# Altium schematic symbol library ESP-12S.SchLib: 2 symbols
Pins are listed as number, name and electrical type; pins without a type are passive.

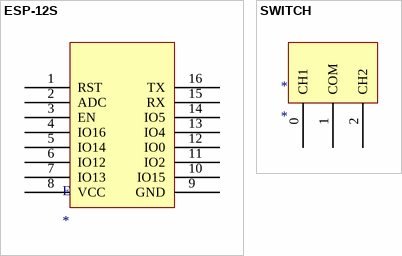
[diagram p0: symbols ESP-12S to SWITCH]

## ESP-12S
designator E
footprint ESP-12S
pins: 1 RST, 2 ADC, 3 EN, 4 IO16, 5 IO14, 6 IO12, 7 IO13, 8 VCC, 9 GND, 10 IO15, 11 IO2, 12 IO0, 13 IO4, 14 IO5, 15 RX, 16 TX

## SWITCH
designator *
footprint SWITCH
pins: 0 CH1, 1 COM, 2 CH2